# Altium schematic symbol library WE-PMCI_1210.SchLib: 1 symbol
Pins are listed as number, name and electrical type; pins without a type are passive.

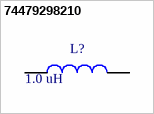
[diagram p0: symbol 74479298210]

## 74479298210
designator L?  value 1.0 uH  (hidden comment: 74479298210)
FIXED IND 1UH 2.5A 54 MOHM SMD 1210; PublishedDate: Nov. 2016; Publisher: Wurth Elektronik; ComponentLink1Description: Manufacturer; ComponentLink1URL: http://www.we-online.de; ComponentLink2Description: Datasheet; ComponentLink2URL: http://katalog.we-online.de/pbs/datasheet/74479298210.pdf; PartNumber: 74479298210; Size: 1210
footprint WE-PMCI_1210
footprint WE-PMCI_1210 Side (WE-PMCI WE-PMCI Power Molded Chip Inductor, 1210 mounted on edge (manual soldering))
pins: 1, 2